# EAGLE library part CD40106_SOCKET (library MODEL2OBJECT 3)
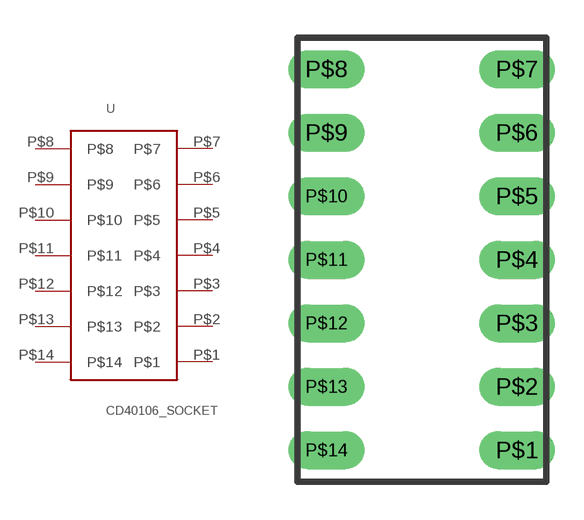
[diagram p1: symbol with the pads of DIP_14_SOCKET; footprint DIP_14_SOCKET]

Designator prefix -

## CD40106_SOCKET  [DIP_14_SOCKET]
P$1  P$1
P$2  P$2
P$3  P$3
P$4  P$4
P$5  P$5
P$6  P$6
P$7  P$7
P$8  P$8
P$9  P$9
P$10  P$10
P$11  P$11
P$12  P$12
P$13  P$13
P$14  P$14

## Footprint DIP_14_SOCKET (pad centres in mm)
drill 1.016 long: P$1 0,0; P$2 0,2.54; P$3 0,5.08; P$4 0,7.62; P$5 0,10.16; P$6 0,12.7; P$7 0,15.24; P$8 -7.62,15.24; P$9 -7.62,12.7; P$10 -7.62,10.16; P$11 -7.62,7.62; P$12 -7.62,5.08; P$13 -7.62,2.54; P$14 -7.62,0